# Altium schematic symbol library PJS008U-3000-0.SchLib: 1 symbol
Pins are listed as number, name and electrical type; pins without a type are passive.

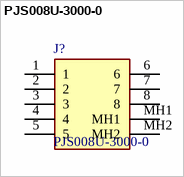
[diagram p0: symbol PJS008U-3000-0]

## PJS008U-3000-0
designator J?
Memory Card Connectors MicroSD Card Conn Ver Dip Mnt Manual; Manufacturer_Name: Yamaichi; Geometry.Height: 14.18mm; Mouser Part Number: 945-PJS008U-3000-0; Mouser Price/Stock: https://www.mouser.co.uk/ProductDetail/Yamaichi-Electronics/PJS008U-3000-0?qs=nO3wRANIIvnp3f0XwG2X3A%3D%3D; Manufacturer_Part_Number: PJS008U-3000-0; Datasheet Link: *
footprint PJS008U30000
pins: 1, 2, 3, 4, 5, 6, 7, 8, MH1, MH2